# Altium footprint library DS1013-20R.PcbLib: 1 footprints
Each footprint in its own frame and in the unit in brackets; x right, y up, seen from the top. Pads: shape width x height; smd on the part's side, far side on the other; paste and mask are expansions set on the pad; w line width, h text height; cw(c..) or ccw(c..) is an arc to the next point about the centre after c.
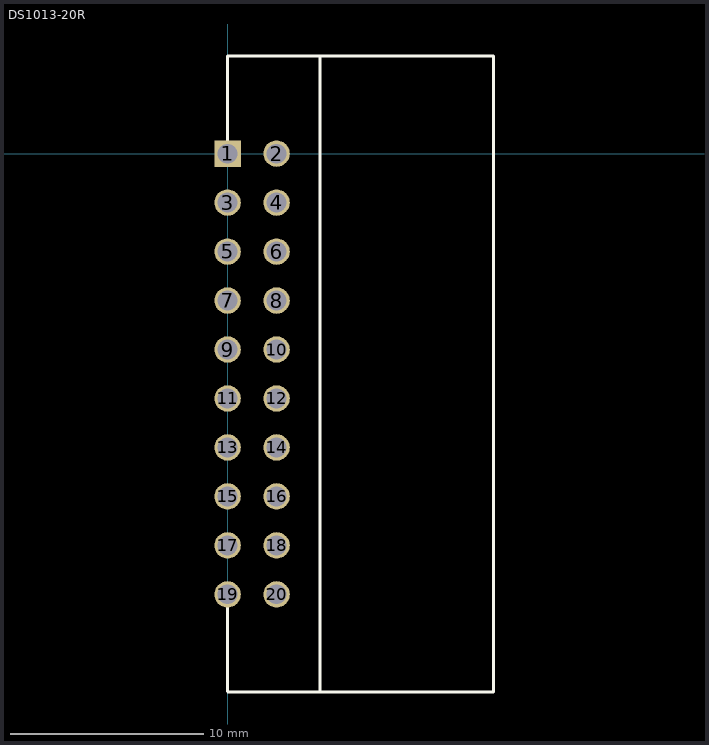
[diagram p0: the footprint, top view; thin cyan lines are the x and y axes]

## DS1013-20R [mil] "header  20 pin right angle 2.54 pitch"
pads (20):
  rect 54.02x54 hole 40.16: 1(0,0)
  oval 54.02x54 hole 40.16: 2(100,0) 3(0,-100) 4(100,-100) 5(0,-200) 6(100,-200) 7(0,-300) 8(100,-300) 9(0,-400) 10(100,-400) 11(0,-500) 12(100,-500) 13(0,-600) 14(100,-600) 15(0,-700) 16(100,-700) 17(0,-800) 18(100,-800) 19(0,-900) 20(100,-900)
Top Overlay:
  lines w0.39: 188.98,188.98 188.98,199.61
  lines w5.91: 0,-900 0,-1098.43 1.18,-1099.61 188.98,-1099.61 ; 0,0 0,199.61 188.98,199.61 ; 188.98,-1099.61 188.98,199.61 ; 188.98,-1099.61 543.31,-1099.61 543.31,199.61 188.98,199.61
Mechanical 15:
  text "'.Designator'" at -5.26,27.56 h78.74
3D body "DS1013-20R.STEP": height 338.58, standoff -129.92, extent -13.78,-1099.41 520.08,199.8